# Altium schematic symbol library NTA4151PT1G.SchLib: 1 symbol
Pins are listed as number, name and electrical type; pins without a type are passive.

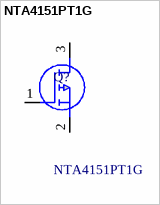
[diagram p0: symbol NTA4151PT1G]

## NTA4151PT1G
designator Q?
ON Semiconductor NTA4151PT1G P-channel MOSFET Transistor, 0.76 A, -20 V, 3-Pin SC-75; Manufacturer_Name: onsemi; Geometry.Height: 0.9mm; Mouser Part Number: 863-NTA4151PT1G; Mouser Price/Stock: https://www.mouser.co.uk/ProductDetail/onsemi/NTA4151PT1G?qs=ZXBb0xZ9WeC9bannzQa%2FPw%3D%3D; Manufacturer_Part_Number: NTA4151PT1G; Datasheet Link: http://www.onsemi.com/pub/Collateral/NTA4151P-D.PDF
footprint SOT50P160X90-3N
pins: 1 G, 2 S, 3 D